# EAGLE library part 2011ВВ014 (library transceivers)
АЕЯР.431230.880 ТУ 2011ВВ014 - Микросборка приемопередатчика с гальванической развязкой со скоростью передачи битов данных не более 25 Мбит/c. Производитель: ЗАО "ПКК "Миландр" Технические условия: АЕЯР.431230.880 ТУ
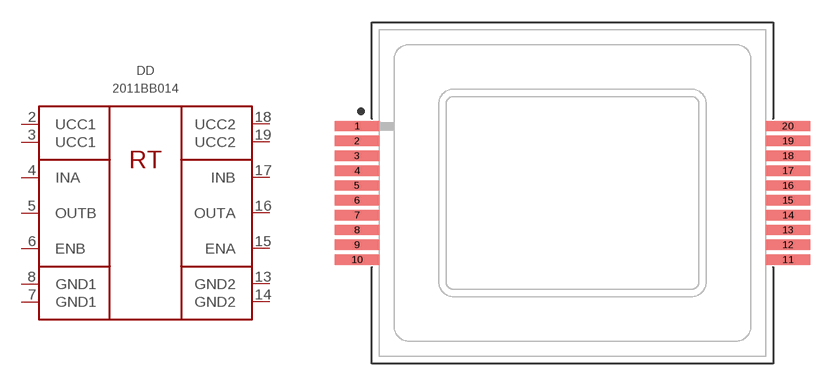
[diagram p8: symbol with the pads of 4140.20-1; footprint 4140.20-1]

Designator prefix DD

## 2011ВВ014  [4140.20-1]
2  UCC1  pwr
3  UCC1  pwr
4  INA  in
5  OUTB  out
6  ENB  in
7  GND1  pwr
8  GND1  pwr
13  GND2  pwr
14  GND2  pwr
15  ENA  in
16  OUTA  out
17  INB  in
18  UCC2  pwr
19  UCC2  pwr

## Footprint 4140.20-1 (pad centres in mm)
smd 3 x 0.7: 1 -14.5,4.5; 2 -14.5,3.5; 3 -14.5,2.5; 4 -14.5,1.5; 5 -14.5,0.5; 6 -14.5,-0.5; 7 -14.5,-1.5; 8 -14.5,-2.5; 9 -14.5,-3.5; 10 -14.5,-4.5; 11 14.5,-4.5; 12 14.5,-3.5; 13 14.5,-2.5; 14 14.5,-1.5; 15 14.5,-0.5; 16 14.5,0.5; 17 14.5,1.5; 18 14.5,2.5; 19 14.5,3.5; 20 14.5,4.5